# Altium schematic symbol library FSUSB42UMX.SchLib: 1 symbol
Pins are listed as number, name and electrical type; pins without a type are passive.

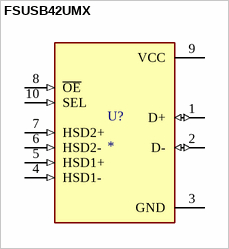
[diagram p0: symbol FSUSB42UMX]

## FSUSB42UMX
designator U?
USB Switch IC 1 Channel 10-UMLP (1.8x1.4); MF: ON Semiconductor; MP: FSUSB42UMX; SnapEDA_Link: https://www.snapeda.com/parts/FSUSB42UMX/Onsemi/view-part/?ref=snap; Package: UQFN-10 ON Semiconductor; Value: *; Check_prices: https://www.snapeda.com/parts/FSUSB42UMX/Onsemi/view-part/?ref=eda
footprint IC_FSUSB42UMX
pins: 1 D+ (io), 2 D- (io), 3 GND (power), 4 HSD1- (in), 5 HSD1+ (in), 6 HSD2- (in), 7 HSD2+ (in), 8 ~{OE} (in), 9 VCC (power), 10 SEL (in)